# Altium footprint library WS2812B.PcbLib: 1 footprints
Each footprint in its own frame and in the unit in brackets; x right, y up, seen from the top. Pads: shape width x height; smd on the part's side, far side on the other; paste and mask are expansions set on the pad; w line width, h text height; cw(c..) or ccw(c..) is an arc to the next point about the centre after c.
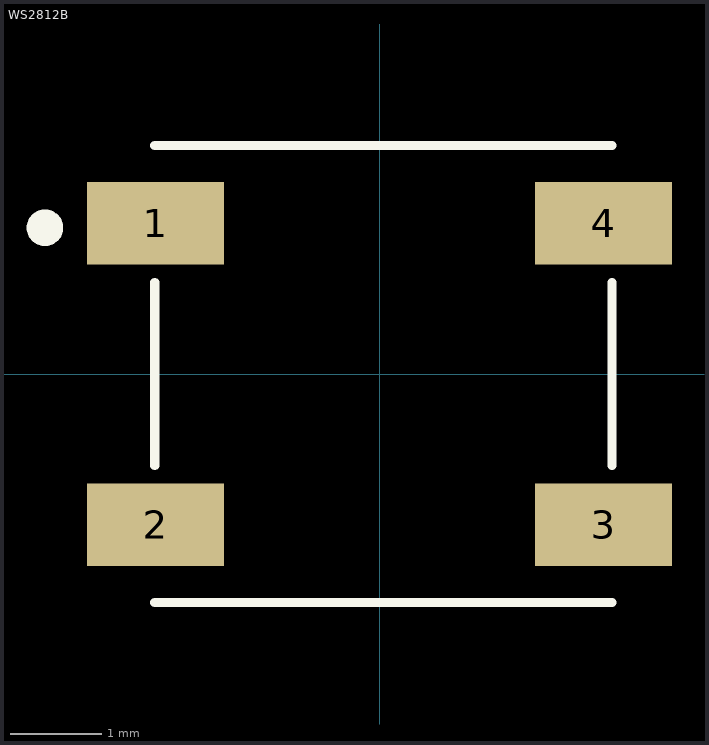
[diagram p0: the footprint, top view; thin cyan lines are the x and y axes]

## WS2812B [mm]
pads (4):
  rect 1.5x0.9 smd: 1(-2.45,1.65) 2(-2.45,-1.65) 3(2.45,-1.65) 4(2.45,1.65)
Top Overlay:
  lines w0.1: -2.46,-2.5 2.54,-2.5 ; -2.46,-1 -2.46,1 ; -2.46,2.5 2.54,2.5 ; 2.54,-1 2.54,1
  lines w0.2: -3.66,1.5 cw(c-3.66,1.6) -3.66,1.7 cw(c-3.66,1.6) -3.66,1.5
3D body "LED ws2812B.STEP": height 1.55, standoff -0.02, extent -2.7,-2.5 2.7,2.5